# EAGLE library part 691311500013 (library Wurth_Elektronik_Electromechanic_Terminal_Blocks_Connectors_rev15c)
WR-TBL Serie 311 - 5.08 mm Open Vertical PCB Header , 13 Pins=>Code : Con_TBL_Pluggable_5.08_PCB_THT_Simple_V_691311500013 <http://katalog.we-online.de/media/images/eican/Con_TBL_Pluggable_5.08_PCB_THT_Simple_V_6913115000xx_pf2.jpg> Details see: http://katalog.we-online.de/en/em/691_311_500_0xx Created 2014-06-23, Karrer Zheng 2014 (C) Würth Elektronik
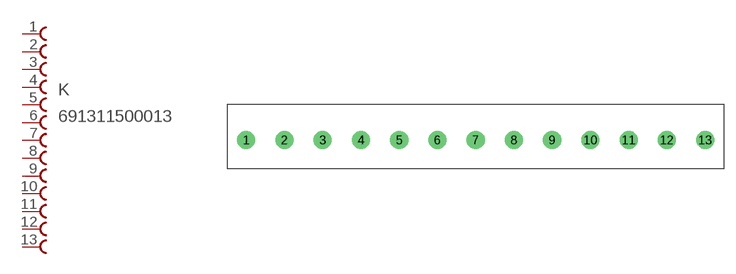
[diagram p98: symbol with the pads of 691311500013; footprint 691311500013]

Designator prefix K

## 691311500013  [691311500013]
1  1  pas
2  2  pas
3  3  pas
4  4  pas
5  5  pas
6  6  pas
7  7  pas
8  8  pas
9  9  pas
10  10  pas
11  11  pas
12  12  pas
13  13  pas

## Footprint 691311500013 (pad centres in mm)
WR-TBL Serie 311 - 5.08 mm Open Vertical PCB Header , 13 Pins
drill 1.6: 1 -40.64,0; 2 -35.56,0; 3 -30.48,0; 4 -25.4,0; 5 -20.32,0; 6 -15.24,0; 7 -10.16,0; 8 -5.08,0; 9 0,0; 10 5.08,0; 11 10.16,0; 12 15.24,0; 13 20.32,0